# EAGLE library part XHP6 (library PCBSTART)
Signal Connector for Signal Input/Output or Low Power Supply Input JST Corporation
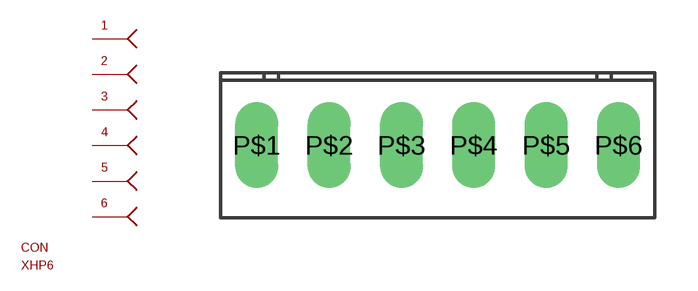
[diagram p3: symbol with the pads of XHP6; footprint XHP6]

Designator prefix CON

## XHP6  [XHP6]
P$1  P$1  pas
P$2  P$2  pas
P$3  P$3  pas
P$4  P$4  pas
P$5  P$5  pas
P$6  P$6  pas

## Footprint XHP6 (pad centres in mm)
XH Connector JST 100mil Pitch 6-Pins 3A 250V
drill 1 long: P$1 0,0; P$2 2.54,0; P$3 5.08,0; P$4 7.62,0; P$5 10.16,0; P$6 12.7,0